# Altium schematic symbol library components.SchLib: 12 symbols
Pins are listed as number, name and electrical type; pins without a type are passive.

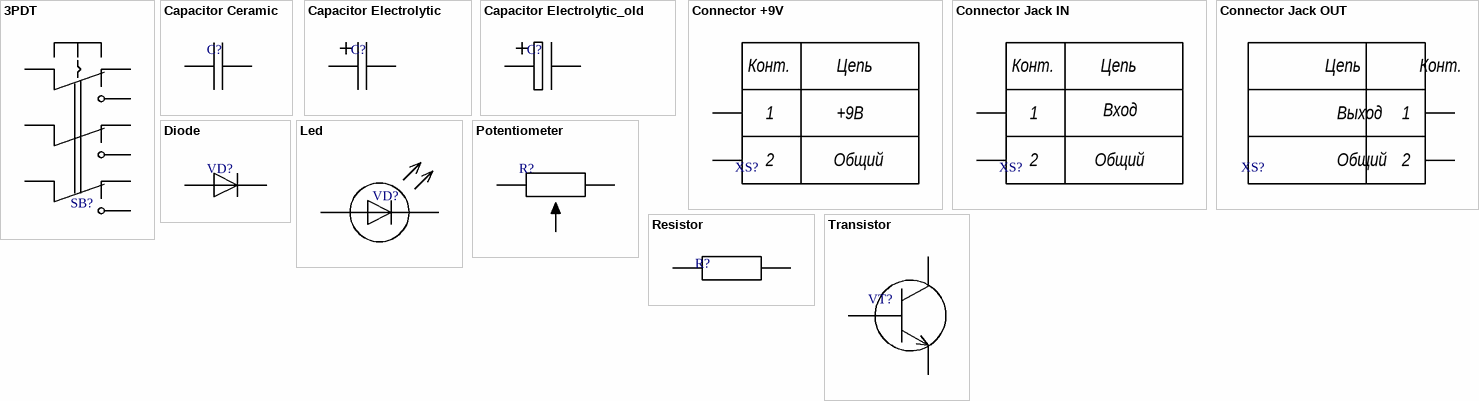
[diagram p0: symbols 3PDT to Transistor]

## 3PDT
designator SB?  (value not drawn)
footprint 3PDT
pins: 1, 2, 4, 5, 6, 7, 8, 9, 12

## Capacitor Ceramic
designator C?  (value not drawn)
footprint СC
pins: 1, 2

## Capacitor Electrolytic
designator C?  (value not drawn)
footprint CE (50v 1uF)
pins: 1 N, 2 P

## Capacitor Electrolytic_old
designator C?  (value not drawn)
footprint CE (50v 1uF)
pins: 1 N, 2 P

## Connector +9V
designator XS?  (value not drawn)
footprint CON
pins: 1, 2
text: Конт.; Цепь; +9В; Общий

## Connector Jack IN
designator XS?  (value not drawn)
footprint TRS_6.3mm
pins: 2, 4
text: Конт.; Цепь; 1; Вход; Общий

## Connector Jack OUT
designator XS?  (value not drawn)
footprint TRS_6.3mm
pins: 1, 2
text: Цепь; Конт.; Выход; Общий

## Diode
designator VD?  (value not drawn)
footprint D (1N914)
pins: 1 K, 2 A

## Led
designator VD?  (value not drawn)
RED
footprint LED
pins: 1, 2

## Potentiometer
designator R?  (value not drawn)
footprint RP
pins: 1, 2, 3

## Resistor
designator R?  (value not drawn)
footprint R
pins: 1, 2

## Transistor
designator VT?  (value not drawn)
footprint BC239C (TO-92)
pins: 1 Collector, 2 Base, 3 Emitter